# Altium schematic symbol library EsteemPCB_SOM_Course_schlib.SchLib: 243 symbols (part 1 of 3)
Pins are listed as number, name and electrical type; pins without a type are passive.

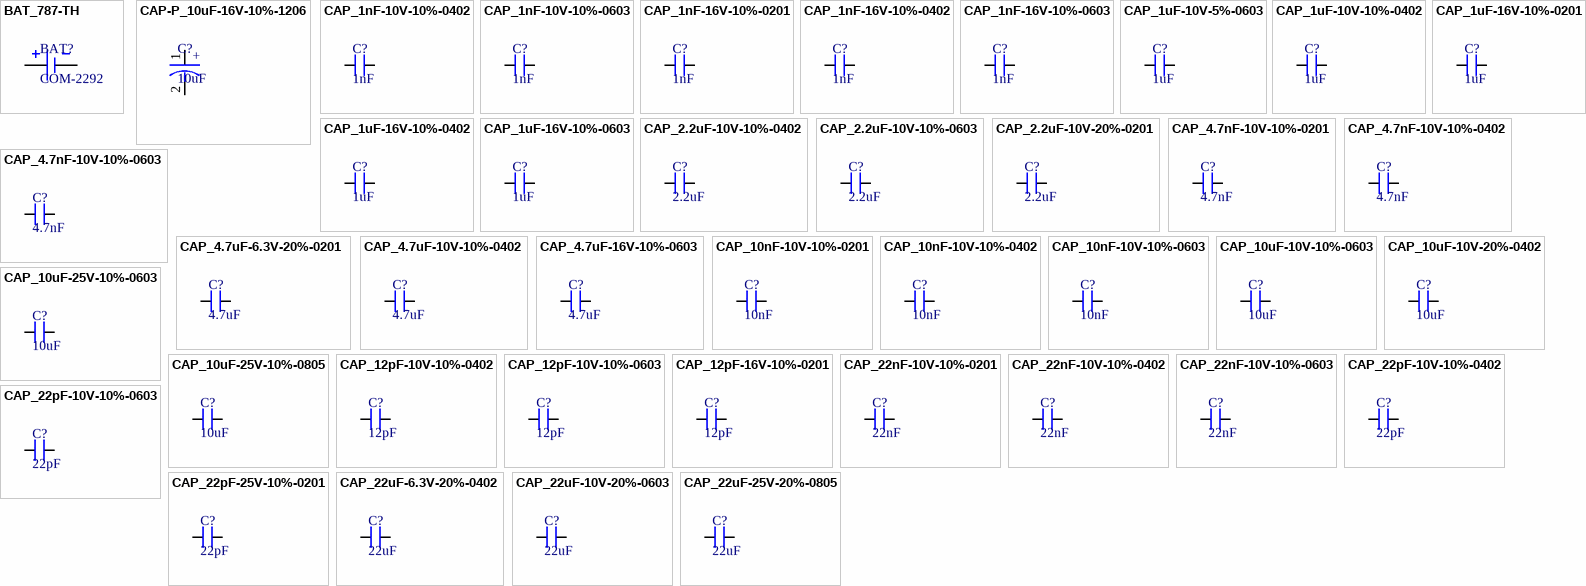
[diagram p0: symbols BAT_787-TH to CAP_22uF-25V-20%-0805]

## BAT_787-TH
designator BAT?, comment COM-2292
Basic 20mm coin cell holder. Posts can be inserted into 0.1" perf board! Holds the common CR2032 type batteries.; Manufacturer: NA; Manufacturer Part Number: NA; Case/Package: TH; Supplier-1: Rhydo Labs
footprint BAT_761_TH (Battery holder)
pins: 1 POS, 2 NEG

## CAP-P_10uF-16V-10%-1206
designator C?, comment 10uF
10µF Molded Tantalum Capacitors 16V 1206 (3216 Metric) 3Ohm; Manufacturer: AVX Corporation; Manufacturer Part Number: TAJA106K016SNJ; Alternate Part Number-1: CA45-A016K106T; Case/Package: 1206; Supplier-1: SIRICOM; Supplier Part Number-1: TAJA106K016SNJ; Category: Capacitor; Number of Pins: 2
footprint CAP-T_1206 (Footprint not found)
pins: 1, 2
text: +

## CAP_1nF-10V-10%-0402
designator C?, comment 1nF
1000pF ±10% 10V Ceramic Capacitor X7R 0402 (1005 Metric); Manufacturer: KEMET; Manufacturer Part Number: C0402C102K8RACTU; Case/Package: 0402; Supplier-1: Digikey
footprint CAP_0402 (Capacitor)
pins: 1, 2

## CAP_1nF-10V-10%-0603
designator C?, comment 1nF
1000pF ±10% 10V Ceramic Capacitor X7R 0603 (1608 Metric); Manufacturer: Yageo; Manufacturer Part Number: CC0603KRX7R6BB102; Case/Package: 0603; Supplier-1: Digikey
footprint CAP_0603 (Capacitor)
pins: 1, 2

## CAP_1nF-16V-10%-0201
designator C?, comment 1nF
1000pF ±10% 16V Ceramic Capacitor X7R 0201 (0603 Metric); Manufacturer: Murata Electronics; Manufacturer Part Number: GRM033R71C102KA01D; Case/Package: 0201; Supplier-1: Digikey
footprint CAP_0201
pins: 1, 2

## CAP_1nF-16V-10%-0402
designator C?, comment 1nF
1000pF ±10% 16V Ceramic Capacitor X7R 0402 (1005 Metric); Manufacturer: Yageo; Manufacturer Part Number: CC0402KRX7R7BB102; Case/Package: 0402; Supplier-1: Digikey
footprint CAP_0402 (Capacitor)
pins: 1, 2

## CAP_1nF-16V-10%-0603
designator C?, comment 1nF
1000pF ±10% 16V Ceramic Capacitor X7R 0603 (1608 Metric); Manufacturer: KEMET; Manufacturer Part Number: C0603C102K4RECAUTO; Case/Package: 0603; Supplier-1: Digikey
footprint CAP_0603 (Capacitor)
pins: 1, 2

## CAP_1uF-10V-5%-0603
designator C?, comment 1uF
1µF ±10% 10V Ceramic Capacitor X5R 0603 (1608 Metric); Manufacturer: Samsung Electro-Mechanics; Manufacturer Part Number: CL10A105KP8NNNC; Case/Package: 0603; Supplier-1: Digikey
footprint CAP_0603 (Capacitor)
pins: 1, 2

## CAP_1uF-10V-10%-0402
designator C?, comment 1uF
1µF ±10% 10V Ceramic Capacitor X6S 0402 (1005 Metric); Manufacturer: Murata Electronics; Manufacturer Part Number: GRT155C81A105KE01D; Case/Package: 0402; Supplier-1: Digikey
footprint CAP_0402 (Capacitor)
pins: 1, 2

## CAP_1uF-16V-10%-0201
designator C?, comment 1uF
1µF ±20% 16V Ceramic Capacitor X5R 0201 (0603 Metric); Manufacturer: Samsung Electro-Mechanics; Manufacturer Part Number: CL03A105MO3NRNH; Case/Package: 0201; Supplier-1: Digikey
footprint CAP_0201
pins: 1, 2

## CAP_1uF-16V-10%-0402
designator C?, comment 1uF
1µF ±10% 16V Ceramic Capacitor X5R 0402 (1005 Metric); Manufacturer: Knowles Novacap; Manufacturer Part Number: 0402BW105K160YT; Case/Package: 0402; Supplier-1: Digikey
footprint CAP_0402 (Capacitor)
pins: 1, 2

## CAP_1uF-16V-10%-0603
designator C?, comment 1uF
1µF ±10% 16V Ceramic Capacitor X7R 0603 (1608 Metric); Manufacturer: Yageo; Manufacturer Part Number: CC0603KRX7R7BB105; Case/Package: 0603; Supplier-1: Digikey
footprint CAP_0603 (Capacitor)
pins: 1, 2

## CAP_2.2uF-10V-10%-0402
designator C?, comment 2.2uF
2.2µF ±10% 10V Ceramic Capacitor X5R 0402 (1005 Metric); Manufacturer: Murata Electronics; Manufacturer Part Number: GRM155R61A225KE95D; Case/Package: 0402; Supplier-1: Digikey
footprint CAP_0402 (Capacitor)
pins: 1, 2

## CAP_2.2uF-10V-10%-0603
designator C?, comment 2.2uF
2.2µF ±10% 16V Ceramic Capacitor X5R 0603 (1608 Metric); Manufacturer: KEMET; Manufacturer Part Number: C0603C225K4PACTU; Case/Package: 0603; Supplier-1: Digikey
footprint CAP_0603 (Capacitor)
pins: 1, 2

## CAP_2.2uF-10V-20%-0201
designator C?, comment 2.2uF
2.2µF ±20% 10V Ceramic Capacitor X5R 0201 (0603 Metric); Manufacturer: Murata Electronics; Manufacturer Part Number: GRM033R61A225ME47D; Case/Package: 0201; Supplier-1: Digikey
footprint CAP_0201
pins: 1, 2

## CAP_4.7nF-10V-10%-0201
designator C?, comment 4.7nF
4700pF ±10% 10V Ceramic Capacitor X7R 0201 (0603 Metric); Manufacturer: AVX Corporation; Manufacturer Part Number: 0201ZC472KAT2A; Case/Package: 0201; Supplier-1: Digikey
footprint CAP_0201
pins: 1, 2

## CAP_4.7nF-10V-10%-0402
designator C?, comment 4.7nF
4700pF ±10% 10V Ceramic Capacitor 0402 (1005 Metric); Manufacturer: Taiyo Yuden; Manufacturer Part Number: LMK105SD472KV-F; Case/Package: 0402; Supplier-1: Digikey
footprint CAP_0402 (Capacitor)
pins: 1, 2

## CAP_4.7nF-10V-10%-0603
designator C?, comment 4.7nF
4700pF ±10% 10V Ceramic Capacitor X7R 0603 (1608 Metric); Manufacturer: KEMET; Manufacturer Part Number: C0603C472K8RACTU; Case/Package: 0603; Supplier-1: Digikey
footprint CAP_0603 (Capacitor)
pins: 1, 2

## CAP_4.7uF-6.3V-20%-0201
designator C?, comment 4.7uF
4.7µF ±20% 6.3V Ceramic Capacitor X5R 0201 (0603 Metric); Manufacturer: Murata Electronics; Manufacturer Part Number: GRM035R60J475ME15D; Case/Package: 0201; Supplier-1: Digikey
footprint CAP_0201
pins: 1, 2

## CAP_4.7uF-10V-10%-0402
designator C?, comment 4.7uF
4.7µF ±10% 10V Ceramic Capacitor X5R 0402 (1005 Metric); Manufacturer: Samsung Electro-Mechanics; Manufacturer Part Number: CL05A475KP5NRNC; Case/Package: 0402; Supplier-1: Digikey
footprint CAP_0402 (Capacitor)
pins: 1, 2

## CAP_4.7uF-16V-10%-0603
designator C?, comment 4.7uF
4.7µF ±10% 16V Ceramic Capacitor X5R 0603 (1608 Metric); Manufacturer: Murata Electronics; Manufacturer Part Number: GRM188R61C475KAAJD; Case/Package: 0603; Supplier-1: Digikey
footprint CAP_0603 (Capacitor)
pins: 1, 2

## CAP_10nF-10V-10%-0201
designator C?, comment 10nF
10000pF ±10% 10V Ceramic Capacitor X7R 0201 (0603 Metric); Manufacturer: TDK Corporation; Manufacturer Part Number: CGA1A2X7R1A103K030BA; Case/Package: 0201; Supplier-1: Digikey
footprint CAP_0201
pins: 1, 2

## CAP_10nF-10V-10%-0402
designator C?, comment 10nF
10000pF ±10% 10V Ceramic Capacitor X7R 0402 (1005 Metric); Manufacturer: AVX Corporation; Manufacturer Part Number: 0402ZC103KAT2A; Case/Package: 0402; Supplier-1: Digikey
footprint CAP_0402 (Capacitor)
pins: 1, 2

## CAP_10nF-10V-10%-0603
designator C?, comment 10nF
10000pF ±10% 10V Ceramic Capacitor X7R 0603 (1608 Metric); Manufacturer: KEMET; Manufacturer Part Number: C0603C103K8RACTU; Case/Package: 0603; Supplier-1: Digikey
footprint CAP_0603 (Capacitor)
pins: 1, 2

## CAP_10uF-10V-10%-0603
designator C?, comment 10uF
10µF ±10% 10V Ceramic Capacitor X5R 0603 (1608 Metric); Manufacturer Part Number: GRM188R61A106KE69J; Manufacturer: Murata Electronics; Case/Package: 0603; Supplier-1: Digikey
footprint CAP_0603 (Capacitor)
pins: 1, 2

## CAP_10uF-10V-20%-0402
designator C?, comment 10uF
10µF ±20% 10V Ceramic Capacitor X5R 0402 (1005 Metric); Manufacturer Part Number: CL05A106MP5NUNC; Manufacturer: Samsung Electro-Mechanics; Case/Package: 0402; Supplier-1: Digikey
footprint CAP_0402 (Capacitor)
pins: 1, 2

## CAP_10uF-25V-10%-0603
designator C?, comment 10uF
10µF ±10% 25V Ceramic Capacitor X5R 0603 (1608 Metric); Manufacturer: Murata Electronics; Manufacturer Part Number: GRM188R61E106KA73D; Case/Package: 0603; Supplier-1: Digikey
footprint CAP_0603 (Capacitor)
pins: 1, 2

## CAP_10uF-25V-10%-0805
designator C?, comment 10uF
10µF ±10% 25V Ceramic Capacitor X5R 0805 (2012 Metric); Manufacturer: Murata Electronics; Manufacturer Part Number: GRM21BR61E106KA73K; Case/Package: 0805; Supplier-1: Digikey
footprint CAP_0805 (Ceramic Capacitor)
pins: 1, 2

## CAP_12pF-10V-10%-0402
designator C?, comment 12pF
12pF ±10% 10V Ceramic Capacitor X8R 0402 (1005 Metric); Manufacturer: KEMET; Manufacturer Part Number: C0402C120K8HAC7867; Case/Package: 0402; Supplier-1: Digikey
footprint CAP_0402 (Capacitor)
pins: 1, 2

## CAP_12pF-10V-10%-0603
designator C?, comment 12pF
12pF ±10% 10V Ceramic Capacitor X8R 0603 (1608 Metric); Manufacturer: KEMET; Manufacturer Part Number: C0603X120K8HAC7867; Case/Package: 0603; Supplier-1: Digikey
footprint CAP_0603 (Capacitor)
pins: 1, 2

## CAP_12pF-16V-10%-0201
designator C?, comment 12pF
12pF ±10% 16V Ceramic Capacitor C0G, NP0 0201 (0603 Metric); Manufacturer: AVX Corporation; Manufacturer Part Number: 0201YA120KAT2A; Case/Package: 0201; Supplier-1: Digikey
footprint CAP_0201
pins: 1, 2

## CAP_22nF-10V-10%-0201
designator C?, comment 22nF
0.022µF ±10% 10V Ceramic Capacitor X5R 0201 (0603 Metric); Manufacturer: Yageo; Manufacturer Part Number: CC0201KRX5R6BB223; Case/Package: 0201; Supplier-1: Digikey
footprint CAP_0201
pins: 1, 2

## CAP_22nF-10V-10%-0402
designator C?, comment 22nF
0.022µF ±10% 10V Ceramic Capacitor X7R 0402 (1005 Metric); Manufacturer: Samsung Electro-Mechanics; Manufacturer Part Number: CL05B223KP5NNNC; Case/Package: 0402; Supplier-1: Digikey
footprint CAP_0402 (Capacitor)
pins: 1, 2

## CAP_22nF-10V-10%-0603
designator C?, comment 22nF
0.022µF ±10% 10V Ceramic Capacitor X7R 0603 (1608 Metric); Manufacturer: Taiyo Yuden; Manufacturer Part Number: LMF107B7223KAHT; Case/Package: 0603; Supplier-1: Digikey
footprint CAP_0603 (Capacitor)
pins: 1, 2

## CAP_22pF-10V-10%-0402
designator C?, comment 22pF
22pF ±10% 10V Ceramic Capacitor C0G, NP0 0402 (1005 Metric); Manufacturer: KEMET; Manufacturer Part Number: C0402C220K8GACTU; Case/Package: 0402; Supplier-1: Digikey
footprint CAP_0402 (Capacitor)
pins: 1, 2

## CAP_22pF-10V-10%-0603
designator C?, comment 22pF
22pF ±10% 10V Ceramic Capacitor X8R 0603 (1608 Metric); Manufacturer: KEMET; Manufacturer Part Number: C0603X220K8HAC7867; Case/Package: 0603; Supplier-1: Digikey
footprint CAP_0603 (Capacitor)
pins: 1, 2

## CAP_22pF-25V-10%-0201
designator C?, comment 22pF
22pF ±10% 25V Ceramic Capacitor C0G, NP0 0201 (0603 Metric); Manufacturer: Johanson Technology Inc.; Manufacturer Part Number: 250R05L220KV4T; Case/Package: 0201; Supplier-1: Digikey
footprint CAP_0201
pins: 1, 2

## CAP_22uF-6.3V-20%-0402
designator C?, comment 22uF
22µF ±20% 6.3V Ceramic Capacitor X5R 0402 (1005 Metric); Manufacturer: Murata Electronics; Manufacturer Part Number: CL05A226MQ5N6J8; Case/Package: 0402; Supplier-1: Digikey
footprint CAP_0402 (Capacitor)
pins: 1, 2

## CAP_22uF-10V-20%-0603
designator C?, comment 22uF
22µF ±20% 10V Ceramic Capacitor X5R 0603 (1608 Metric); Manufacturer: Murata Electronics; Manufacturer Part Number: GRM188R61A226ME15D; Case/Package: 0603; Supplier-1: Digikey
footprint CAP_0603 (Capacitor)
pins: 1, 2

## CAP_22uF-25V-20%-0805
designator C?, comment 22uF
22µF ±20% 25V Ceramic Capacitor X5R 0805 (2012 Metric); Manufacturer: Murata Electronics; Manufacturer Part Number: GRM21BR61E226ME44K; Case/Package: 0805; Supplier-1: Digikey
footprint CAP_0805 (Ceramic Capacitor)
pins: 1, 2

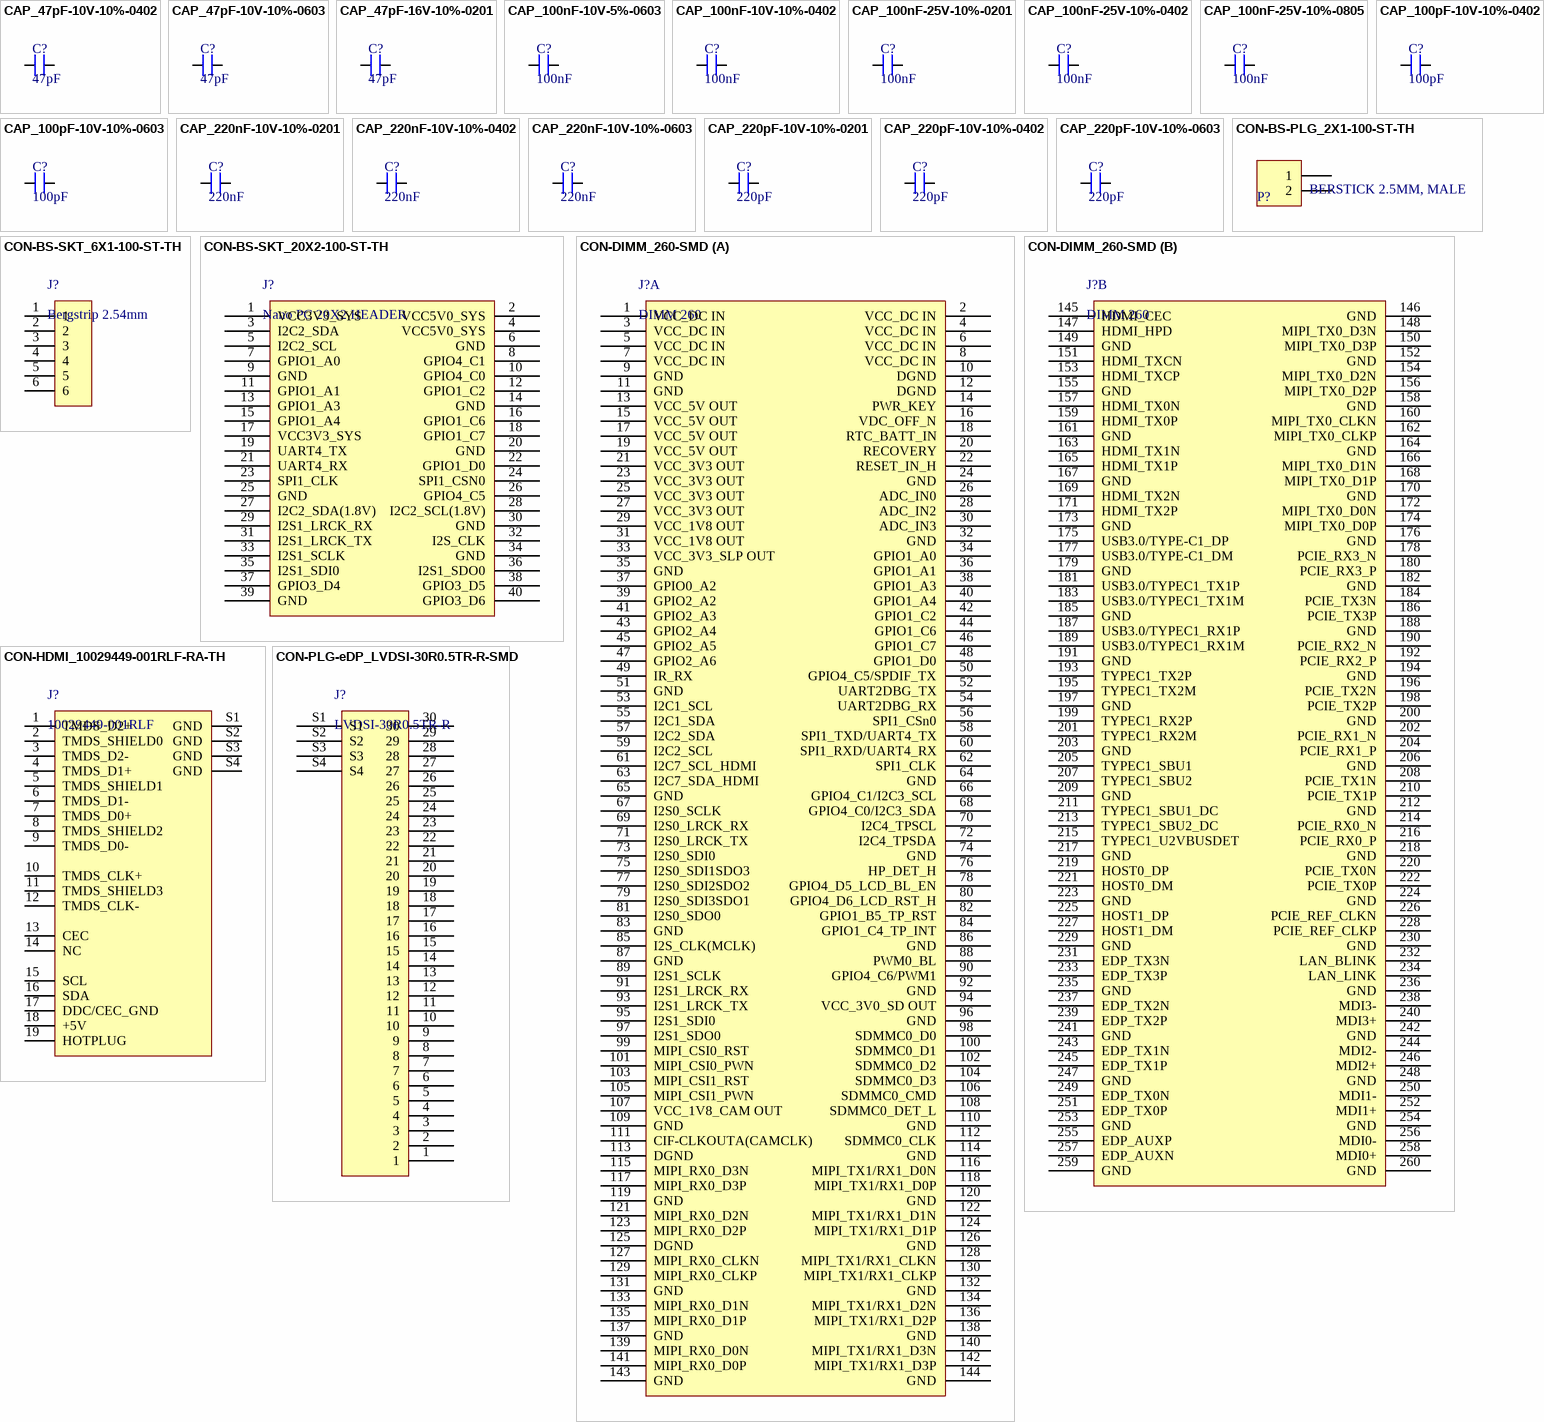
[diagram p1: symbols CAP_47pF-10V-10%-0402 to CON-PLG-eDP_LVDSI-30R0.5TR-R-SMD]

## CAP_47pF-10V-10%-0402
designator C?, comment 47pF
47pF ±10% 10V Ceramic Capacitor C0G, NP0 0402 (1005 Metric); Manufacturer: KEMET; Manufacturer Part Number: C0402C470K8GAC7867; Case/Package: 0402; Supplier-1: Supplier-1
footprint CAP_0402 (Capacitor)
pins: 1, 2

## CAP_47pF-10V-10%-0603
designator C?, comment 47pF
47pF ±10% 10V Ceramic Capacitor X8R 0603 (1608 Metric); Manufacturer: KEMET; Manufacturer Part Number: C0603X470K8HAC7867; Case/Package: 0603; Supplier-1: Supplier-1
footprint CAP_0603 (Capacitor)
pins: 1, 2

## CAP_47pF-16V-10%-0201
designator C?, comment 47pF
47pF ±10% 16V Ceramic Capacitor X5R 0201 (0603 Metric); Manufacturer: AVX Corporation; Manufacturer Part Number: 0201YD470KAT2A; Case/Package: 0201; Supplier-1: Supplier-1
footprint CAP_0201
pins: 1, 2

## CAP_100nF-10V-5%-0603
designator C?, comment 100nF
0.1µF ±10% 10V Ceramic Capacitor X7R 0603 (1608 Metric); Manufacturer: Yageo; Manufacturer Part Number: CC0603KRX7R6BB104; Case/Package: 0603; Supplier-1: Digikey
footprint CAP_0603 (Capacitor)
pins: 1, 2

## CAP_100nF-10V-10%-0402
designator C?, comment 100nF
0.1µF ±10% 10V Ceramic Capacitor X7R 0402 (1005 Metric); Manufacturer: Yageo; Manufacturer Part Number: CC0402KRX7R6BB104; Case/Package: 0402; Supplier-1: Digikey
footprint CAP_0402 (Capacitor)
pins: 1, 2

## CAP_100nF-25V-10%-0201
designator C?, comment 100nF
0.1µF ±10% 25V Ceramic Capacitor X5R 0201 (0603 Metric); Manufacturer: TDK Corporation; Manufacturer Part Number: C0603X5R1E104K030BB; Case/Package: 0201; Supplier-1: Digikey
footprint CAP_0201
pins: 1, 2

## CAP_100nF-25V-10%-0402
designator C?, comment 100nF
0.1µF ±10% 25V Ceramic Capacitor X7R 0402 (1005 Metric); Manufacturer: Walsin Technology Corporation; Manufacturer Part Number: 0402B104K250CT; Case/Package: 0402; Supplier-1: Digikey
footprint CAP_0402 (Capacitor)
pins: 1, 2

## CAP_100nF-25V-10%-0805
designator C?, comment 100nF
0.1µF ±10% 25V Ceramic Capacitor X7R 0805 (2012 Metric); Manufacturer: Yageo; Manufacturer Part Number: CC0805KRX7R8BB104; Case/Package: 0805; Supplier-1: Digikey
footprint CAP_0805 (Ceramic Capacitor)
pins: 1, 2

## CAP_100pF-10V-10%-0402
designator C?, comment 100pF
100pF ±10% 10V Ceramic Capacitor X7R 0402 (1005 Metric); Manufacturer: KEMET; Manufacturer Part Number: C0402C101K8RAC7867; Case/Package: 0402; Supplier-1: Digikey
footprint CAP_0402 (Capacitor)
pins: 1, 2

## CAP_100pF-10V-10%-0603
designator C?, comment 100pF
100pF ±10% 10V Ceramic Capacitor X7R 0603 (1608 Metric); Manufacturer: AVX Corporation; Manufacturer Part Number: 0603ZC101KAT2A; Case/Package: 0603; Supplier-1: Digikey
footprint CAP_0603 (Capacitor)
pins: 1, 2

## CAP_220nF-10V-10%-0201
designator C?, comment 220nF
0.22µF ±10% 10V Ceramic Capacitor X7R 0402 (1005 Metric); Manufacturer: Samsung Electro-Mechanics; Manufacturer Part Number: CL03A224KP3NNNC; Case/Package: 0201; Supplier-1: Digikey
footprint CAP_0201
pins: 1, 2

## CAP_220nF-10V-10%-0402
designator C?, comment 220nF
0.22µF ±10% 10V Ceramic Capacitor X7R 0402 (1005 Metric); Manufacturer: Samsung Electro-Mechanics; Manufacturer Part Number: CL05B224KP5NNNC; Case/Package: 0402; Supplier-1: Digikey
footprint CAP_0402 (Capacitor)
pins: 1, 2

## CAP_220nF-10V-10%-0603
designator C?, comment 220nF
0.22µF ±10% 10V Ceramic Capacitor X7R 0603 (1608 Metric); Manufacturer: Yageo; Manufacturer Part Number: CC0603KRX7R6BB224; Case/Package: 0603; Supplier-1: Digikey
footprint CAP_0603 (Capacitor)
pins: 1, 2

## CAP_220pF-10V-10%-0201
designator C?, comment 220pF
0.22µF ±10% 10V Ceramic Capacitor X5R 0201 (0603 Metric); Manufacturer: KEMET; Manufacturer Part Number: C0402C221K8RAC7867; Case/Package: 0201; Supplier-1: Digikey
footprint CAP_0201
pins: 1, 2

## CAP_220pF-10V-10%-0402
designator C?, comment 220pF
220pF ±10% 10V Ceramic Capacitor X7R 0402 (1005 Metric); Manufacturer: KEMET; Manufacturer Part Number: C0402C221K8RAC7867; Case/Package: 0402; Supplier-1: Digikey
footprint CAP_0402 (Capacitor)
pins: 1, 2

## CAP_220pF-10V-10%-0603
designator C?, comment 220pF
220pF ±10% 10V Ceramic Capacitor X7R 0603 (1608 Metric); Manufacturer: KEMET; Manufacturer Part Number: C0603C221K8RAC7867; Case/Package: 0603; Supplier-1: Digikey
footprint CAP_0603 (Capacitor)
pins: 1, 2

## CON-BS-PLG_2X1-100-ST-TH
designator P?, comment BERSTICK 2.5MM, MALE
2 Pins, 1 Row 2.54mm Pitch, Straight bergstrip, Male; Manufacturer Part Number: NA; Manufacturer: Samtec; Case/Package: TH-CON; Supplier-1: SP ROAD
footprint CON2_100_43D62_TH_ST (Footprint not found)
pins: 1, 2

## CON-BS-SKT_6X1-100-ST-TH
designator J?, comment Bergstrip 2.54mm
6 Pins, 1 Row 2.54mm Pitch, Straight bergstrip, Female; Manufacturer: Molex; Manufacturer Part Number: 22-10-2061; Case/Package: TH-CON; Supplier-1: SP ROAD
footprint CON6_100_59D78_TH_ST (Bergstrip)
pins: 1, 2, 3, 4, 5, 6

## CON-BS-SKT_20X2-100-ST-TH
designator J?, comment Nano PC 20X2 HEADER
40 Pins, 2 Row 2.54mm Pitch, Straight bergstrip, Female (Stackup); Manufacturer Part Number: ADA2223; Manufacturer: FCI / Amphenol; Case/Package: TH-CON; Supplier-1: TANOTIS
footprint CON40_100_ADA2223_ST_TH
pins: 1 VCC3V3_SYS, 2 VCC5V0_SYS, 3 I2C2_SDA, 4 VCC5V0_SYS, 5 I2C2_SCL, 6 GND, 7 GPIO1_A0, 8 GPIO4_C1, 9 GND, 10 GPIO4_C0, 11 GPIO1_A1, 12 GPIO1_C2, 13 GPIO1_A3, 14 GND, 15 GPIO1_A4, 16 GPIO1_C6, 17 VCC3V3_SYS, 18 GPIO1_C7, 19 UART4_TX, 20 GND, 21 UART4_RX, 22 GPIO1_D0, 23 SPI1_CLK, 24 SPI1_CSN0, 25 GND, 26 GPIO4_C5, 27 I2C2_SDA(1.8V), 28 I2C2_SCL(1.8V), 29 I2S1_LRCK_RX, 30 GND, 31 I2S1_LRCK_TX, 32 I2S_CLK, 33 I2S1_SCLK, 34 GND, 35 I2S1_SDI0, 36 I2S1_SDO0, 37 GPIO3_D4, 38 GPIO3_D5, 39 GND, 40 GPIO3_D6

## CON-DIMM_260-SMD
designator J?, comment DIMM 260
Dimm 260 pin smd plating on pcb; Manufacturer: NA; Manufacturer Part Number: NA; Case/Package: NA; Supplier-1: NA
footprint DIMM260_DDR4 (Dimm Module)
part A pins: 1 VCC_DC IN, 2 VCC_DC IN, 3 VCC_DC IN, 4 VCC_DC IN, 5 VCC_DC IN, 6 VCC_DC IN, 7 VCC_DC IN, 8 VCC_DC IN, 9 GND, 10 DGND, 11 GND, 12 DGND, 13 VCC_5V OUT, 14 PWR_KEY, 15 VCC_5V OUT, 16 VDC_OFF_N, 17 VCC_5V OUT, 18 RTC_BATT_IN, 19 VCC_5V OUT, 20 RECOVERY, 21 VCC_3V3 OUT, 22 RESET_IN_H, 23 VCC_3V3 OUT, 24 GND, 25 VCC_3V3 OUT, 26 ADC_IN0, 27 VCC_3V3 OUT, 28 ADC_IN2, 29 VCC_1V8 OUT, 30 ADC_IN3, 31 VCC_1V8 OUT, 32 GND, 33 VCC_3V3_SLP OUT, 34 GPIO1_A0, 35 GND, 36 GPIO1_A1, 37 GPIO0_A2, 38 GPIO1_A3, 39 GPIO2_A2, 40 GPIO1_A4, 41 GPIO2_A3, 42 GPIO1_C2, 43 GPIO2_A4, 44 GPIO1_C6, 45 GPIO2_A5, 46 GPIO1_C7, 47 GPIO2_A6, 48 GPIO1_D0, 49 IR_RX, 50 GPIO4_C5/SPDIF_TX, 51 GND, 52 UART2DBG_TX, 53 I2C1_SCL, 54 UART2DBG_RX, 55 I2C1_SDA, 56 SPI1_CSn0, 57 I2C2_SDA, 58 SPI1_TXD/UART4_TX, 59 I2C2_SCL, 60 SPI1_RXD/UART4_RX, 61 I2C7_SCL_HDMI, 62 SPI1_CLK, 63 I2C7_SDA_HDMI, 64 GND, 65 GND, 66 GPIO4_C1/I2C3_SCL, 67 I2S0_SCLK, 68 GPIO4_C0/I2C3_SDA, 69 I2S0_LRCK_RX, 70 I2C4_TPSCL, 71 I2S0_LRCK_TX, 72 I2C4_TPSDA, 73 I2S0_SDI0, 74 GND, 75 I2S0_SDI1SDO3, 76 HP_DET_H, 77 I2S0_SDI2SDO2, 78 GPIO4_D5_LCD_BL_EN, 79 I2S0_SDI3SDO1, 80 GPIO4_D6_LCD_RST_H, 81 I2S0_SDO0, 82 GPIO1_B5_TP_RST, 83 GND, 84 GPIO1_C4_TP_INT, 85 I2S_CLK(MCLK), 86 GND, 87 GND, 88 PWM0_BL, 89 I2S1_SCLK, 90 GPIO4_C6/PWM1, 91 I2S1_LRCK_RX, 92 GND, 93 I2S1_LRCK_TX, 94 VCC_3V0_SD OUT, 95 I2S1_SDI0, 96 GND, 97 I2S1_SDO0, 98 SDMMC0_D0, 99 MIPI_CSI0_RST, 100 SDMMC0_D1, 101 MIPI_CSI0_PWN, 102 SDMMC0_D2, 103 MIPI_CSI1_RST, 104 SDMMC0_D3, 105 MIPI_CSI1_PWN, 106 SDMMC0_CMD, 107 VCC_1V8_CAM OUT, 108 SDMMC0_DET_L, 109 GND, 110 GND, 111 CIF-CLKOUTA(CAMCLK), 112 SDMMC0_CLK, 113 DGND, 114 GND, 115 MIPI_RX0_D3N, 116 MIPI_TX1/RX1_D0N, 117 MIPI_RX0_D3P, 118 MIPI_TX1/RX1_D0P, 119 GND, 120 GND, 121 MIPI_RX0_D2N, 122 MIPI_TX1/RX1_D1N, 123 MIPI_RX0_D2P, 124 MIPI_TX1/RX1_D1P, 125 DGND, 126 GND, 127 MIPI_RX0_CLKN, 128 MIPI_TX1/RX1_CLKN, 129 MIPI_RX0_CLKP, 130 MIPI_TX1/RX1_CLKP, 131 GND, 132 GND, 133 MIPI_RX0_D1N, 134 MIPI_TX1/RX1_D2N, 135 MIPI_RX0_D1P, 136 MIPI_TX1/RX1_D2P, 137 GND, 138 GND, 139 MIPI_RX0_D0N, 140 MIPI_TX1/RX1_D3N, 141 MIPI_RX0_D0P, 142 MIPI_TX1/RX1_D3P, 143 GND, 144 GND
part B pins: 145 HDMI_CEC, 146 GND, 147 HDMI_HPD, 148 MIPI_TX0_D3N, 149 GND, 150 MIPI_TX0_D3P, 151 HDMI_TXCN, 152 GND, 153 HDMI_TXCP, 154 MIPI_TX0_D2N, 155 GND, 156 MIPI_TX0_D2P, 157 HDMI_TX0N, 158 GND, 159 HDMI_TX0P, 160 MIPI_TX0_CLKN, 161 GND, 162 MIPI_TX0_CLKP, 163 HDMI_TX1N, 164 GND, 165 HDMI_TX1P, 166 MIPI_TX0_D1N, 167 GND, 168 MIPI_TX0_D1P, 169 HDMI_TX2N, 170 GND, 171 HDMI_TX2P, 172 MIPI_TX0_D0N, 173 GND, 174 MIPI_TX0_D0P, 175 USB3.0/TYPE-C1_DP, 176 GND, 177 USB3.0/TYPE-C1_DM, 178 PCIE_RX3_N, 179 GND, 180 PCIE_RX3_P, 181 USB3.0/TYPEC1_TX1P, 182 GND, 183 USB3.0/TYPEC1_TX1M, 184 PCIE_TX3N, 185 GND, 186 PCIE_TX3P, 187 USB3.0/TYPEC1_RX1P, 188 GND, 189 USB3.0/TYPEC1_RX1M, 190 PCIE_RX2_N, 191 GND, 192 PCIE_RX2_P, 193 TYPEC1_TX2P, 194 GND, 195 TYPEC1_TX2M, 196 PCIE_TX2N, 197 GND, 198 PCIE_TX2P, 199 TYPEC1_RX2P, 200 GND, 201 TYPEC1_RX2M, 202 PCIE_RX1_N, 203 GND, 204 PCIE_RX1_P, 205 TYPEC1_SBU1, 206 GND, 207 TYPEC1_SBU2, 208 PCIE_TX1N, 209 GND, 210 PCIE_TX1P, 211 TYPEC1_SBU1_DC, 212 GND, 213 TYPEC1_SBU2_DC, 214 PCIE_RX0_N, 215 TYPEC1_U2VBUSDET, 216 PCIE_RX0_P, 217 GND, 218 GND, 219 HOST0_DP, 220 PCIE_TX0N, 221 HOST0_DM, 222 PCIE_TX0P, 223 GND, 224 GND, 225 HOST1_DP, 226 PCIE_REF_CLKN, 227 HOST1_DM, 228 PCIE_REF_CLKP, 229 GND, 230 GND, 231 EDP_TX3N, 232 LAN_BLINK, 233 EDP_TX3P, 234 LAN_LINK, 235 GND, 236 GND, 237 EDP_TX2N, 238 MDI3-, 239 EDP_TX2P, 240 MDI3+, 241 GND, 242 GND, 243 EDP_TX1N, 244 MDI2-, 245 EDP_TX1P, 246 MDI2+, 247 GND, 248 GND, 249 EDP_TX0N, 250 MDI1-, 251 EDP_TX0P, 252 MDI1+, 253 GND, 254 GND, 255 EDP_AUXP, 256 MDI0-, 257 EDP_AUXN, 258 MDI0+, 259 GND, 260 GND

## CON-HDMI_10029449-001RLF-RA-TH
designator J?, comment 10029449-001RLF
HDMI HDMI 1.4 Receptacle Connector 19 Position Surface Mount, Right Angle; Through Hole; Manufacturer: Amphenol ICC (FCI); Manufacturer Part Number: 10029449-001RLF; Case/Package: TH; Supplier-1: Digikey
footprint CON19_19.6_10029449-001RLF_TH_RA (HDMI Connector)
pins: 1 TMDS_D2+, 2 TMDS_SHIELD0, 3 TMDS_D2-, 4 TMDS_D1+, 5 TMDS_SHIELD1, 6 TMDS_D1-, 7 TMDS_D0+, 8 TMDS_SHIELD2, 9 TMDS_D0-, 10 TMDS_CLK+, 11 TMDS_SHIELD3, 12 TMDS_CLK-, 13 CEC, 14 NC, 15 SCL, 16 SDA, 17 DDC/CEC_GND, 18 +5V, 19 HOTPLUG, S1 GND, S2 GND, S3 GND, S4 GND

## CON-PLG-eDP_LVDSI-30R0.5TR-R-SMD
designator J?, comment LVDSI-30R0.5TR-R
eDP Connector Female 0.5mm Pitch 30Pin; Manufacturer: gtk: A Volex Company; Manufacturer Part Number: LVDSI-30R0.5TR-R; Case/Package: SMD; Supplier-1: Mouser
footprint CON30_19.6_LVDSI-30R0.5TR-R_TH_RA (EDP Connector)
pins: 1, 2, 3, 4, 5, 6, 7, 8, 9, 10, 11, 12, 13, 14, 15, 16, 17, 18, 19, 20, 21, 22, 23, 24, 25, 26, 27, 28, 29, 30, S1, S2, S3, S4

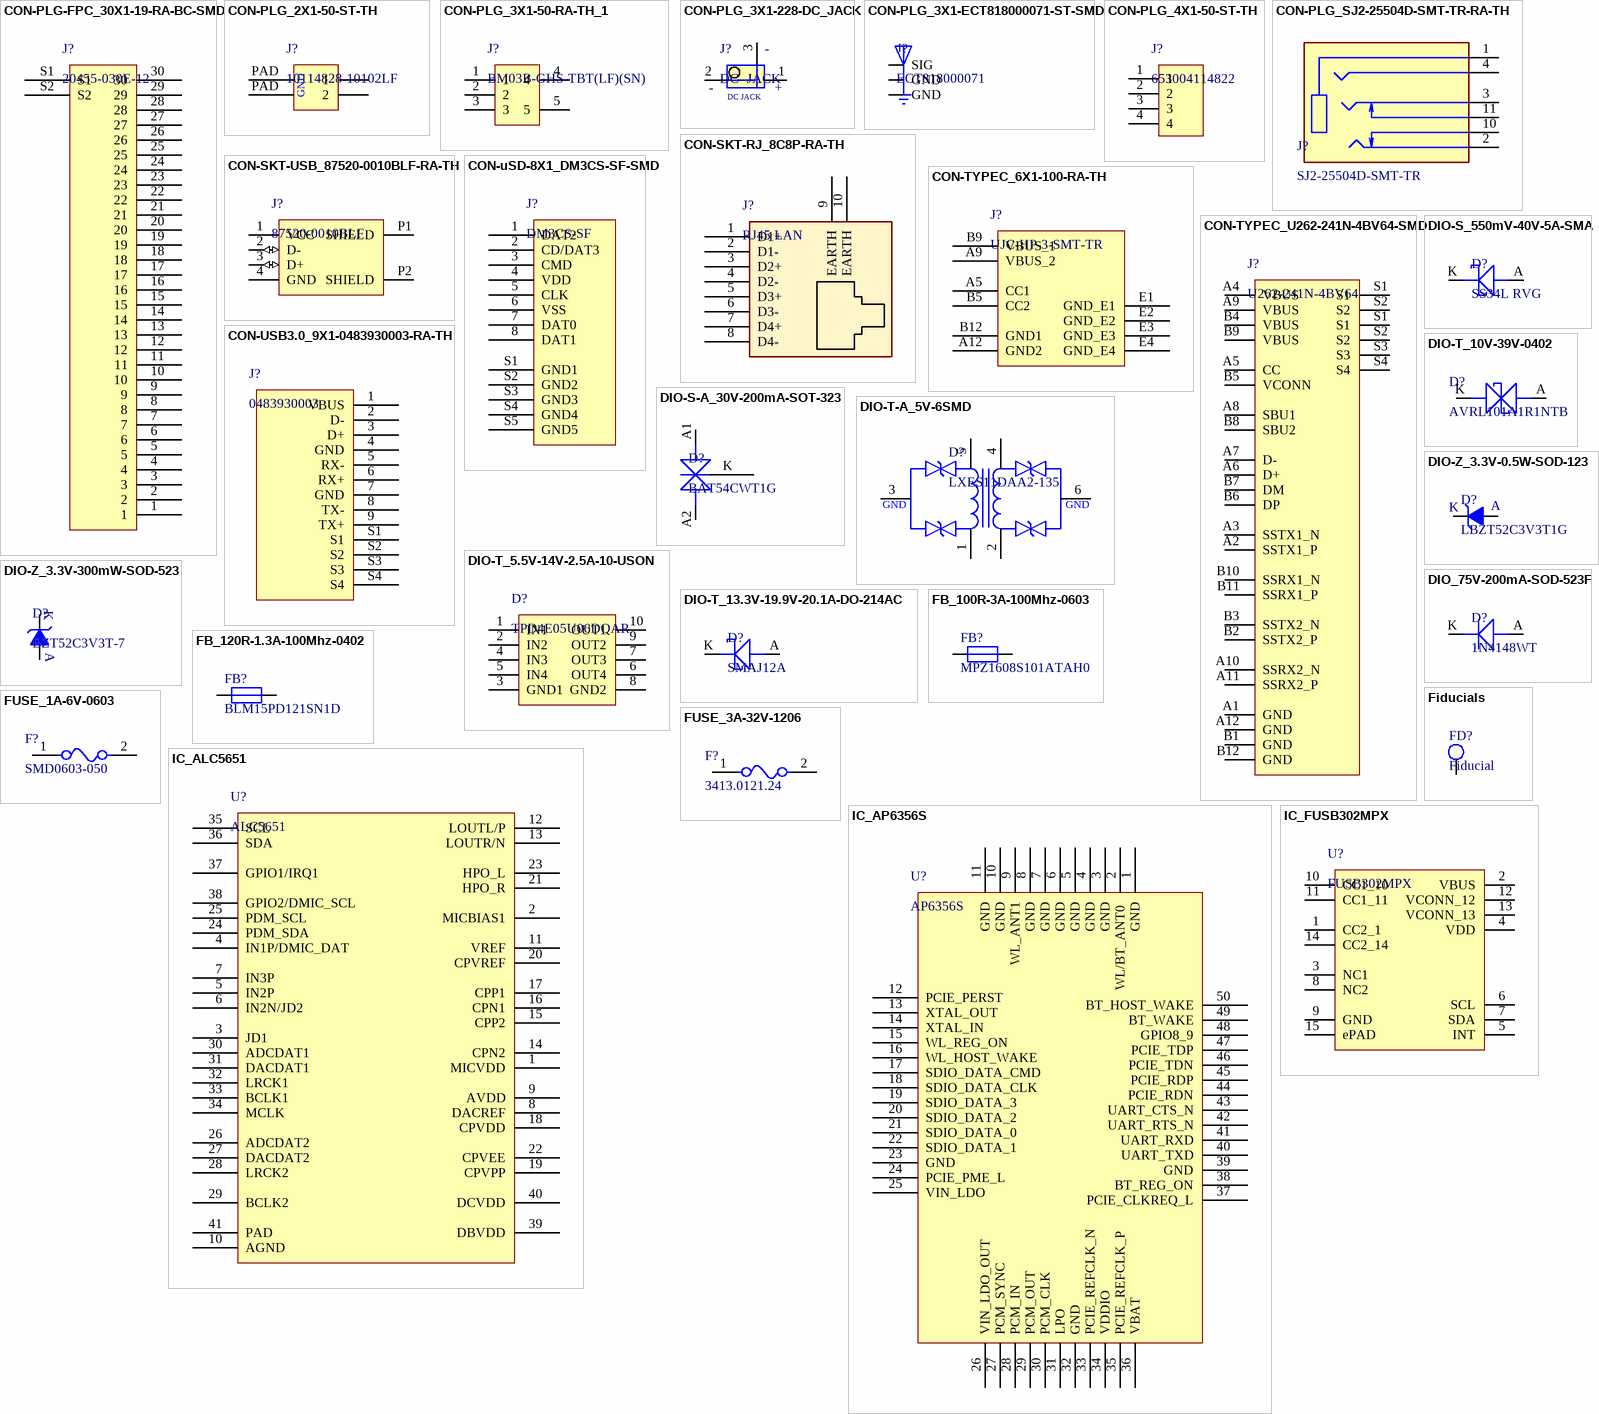
[diagram p2: symbols CON-PLG-FPC_30X1-19-RA-BC-SMD to IC_FUSB302MPX]

## CON-PLG-FPC_30X1-19-RA-BC-SMD
designator J?, comment 20455-030E-12
FFC & FPC Connectors 0.5 FPC EASYON BTM CONT RA 30CKT ZIF; Manufacturer: WE; Manufacturer Part Number: 68713014522; Case/Package: SMD; Supplier-1: Mouser
footprint CON30_19_68713014522 _SMD_RA (30 PIN FPC Connector)
pins: 1, 2, 3, 4, 5, 6, 7, 8, 9, 10, 11, 12, 13, 14, 15, 16, 17, 18, 19, 20, 21, 22, 23, 24, 25, 26, 27, 28, 29, 30, S1, S2

## CON-PLG_2X1-50-ST-TH
designator J?, comment 10114828-10102LF
Connector Header Surface Mount 2 position 0.049" (1.25mm); Manufacturer: Amphenol ICC (FCI); Manufacturer Part Number: 10114828-10102LF; Case/Package: SMD; Supplier-1: Digikey
footprint CON2_10114828-10102LF_SMD (Connector)
pins: 1, 2, PAD, PAD
text: GND

## CON-PLG_3X1-50-RA-TH_1
designator J?, comment BM03B-GHS-TBT(LF)(SN)
Connector Header Surface Mount 3 position 0.049" (1.25mm); Manufacturer: JST Sales America Inc.; Mating Part Number: GHR-03V-S; Crimp Part Number: SSHL-002T-P0.2; Alternate Part Number-1: NA; Manufacturer Part Number: BM03B-GHS-TBT(LF)(SN); Case/Package: TH-CON; Supplier-1: Digikey; Supplier Part Number-1: BM03B-GHS-TBT(LF)(SN); Category: Connector; Number of Pins: 3
footprint CON3_50_BM03B-GHS-TBT(LF)(SN)_TH_RA (Footprint not found)
pins: 1, 2, 3, 4, 5

## CON-PLG_3X1-228-DC_JACK
designator J?, comment DC -JACK
3 Pins, 1 Row 228mil Pitch, right angle Connector, male; Manufacturer: JST; Manufacturer Part Number: PJ-002A; Case/Package: TH-CON; Supplier-1: SP ROAD
footprint CON3_129_PJ-002A_TH_RA (DC JACK)
pins: 1, 2, 3 -
text: +; DC JACK

## CON-PLG_3X1-ECT818000071-ST-SMD
designator J?, comment ECT818000071
SMD RF Connectors/Coaxial Connectors RoHS; Manufacturer: ECT; Manufacturer Part Number: ECT818000071; Case/Package: SMD; Supplier-1: LCSC
footprint CON3_UFL_116_SMD_ST (Footprint not found)
pins: 1 GND, 2 SIG, 3 GND

## CON-PLG_4X1-50-ST-TH
designator J?, comment 653004114822
4 Pins, 1 Row 1.25mm Pitch, straight Connector, male; Manufacturer: JST; Manufacturer Part Number: 653004114822; Case/Package: TH-CON; Supplier-1: WURTH
footprint CON4_50_653004114822_TH_ST (Footprint not found)
pins: 1, 2, 3, 4

## CON-PLG_SJ2-25504D-SMT-TR-RA-TH
designator J?, comment SJ2-25504D-SMT-TR
2.5 mm, Stereo, Right Angle, Surface Mount (SMT), 4 Conductors, 2 Internal Switches, Audio Jack Connector; Manufacturer: CUI Devices; Manufacturer Part Number: SJ2-25504D-SMT-TR; Case/Package: SMD; Supplier-1: Digikey
footprint CON11_SJ2-25504D-SMT-TR_TH_RA (Audio Jack)
pins: 1 SLEEVE, 2 TIP, 3 RING1, 4 RING2, 10 TIP_SWITCH, 11 RING1_SWITCH

## CON-SKT-RJ_8C8P-RA-TH
designator J?, comment RJ45 LAN
8 Pins, 2 Row 2.54mm Pitch, right angle Connector, male; Manufacturer: Assmann; Manufacturer Part Number: A-2004-2-4-LPS-N-R; Case/Package: TH-CON; Supplier-1: SP ROAD
footprint CON10_P106_RJ45_TH_ST (Footprint not found)
pins: 1 D1+, 2 D1-, 3 D2+, 4 D2-, 5 D3+, 6 D3-, 7 D4+, 8 D4-, 9 EARTH, 10 EARTH

## CON-SKT-USB_87520-0010BLF-RA-TH
designator J?, comment 87520-0010BLF
USB-A (USB TYPE-A) USB 2.0 Receptacle Connector 4 Position Through Hole, Right Angle; Manufacturer: Amphenol ICC (FCI); Manufacturer Part Number: 87520-0010BLF; Case/Package: TH; Supplier-1: Digikey
footprint CON4_98_87520-0010BLF_RA_TH (USB FEMALE)
pins: 1 VCC (power), 2 D- (io), 3 D+ (io), 4 GND (power), P1 SHIELD, P2 SHIELD

## CON-TYPEC_6X1-100-RA-TH
designator J?, comment UJC-HP-3-SMT-TR
USB Connectors USB jack, C type, power only, 6 pin, horizonal, gold flash plating, surface mount, T&R; Manufacturer: CUI Devices; Manufacturer Part Number: UJC-HP-3-SMT-TR; Case/Package: TH; Supplier-1: Mouser
footprint CON6_48.4_UJC-HP-3-SMT-TR (Type-C Connector)
pins: A5 CC1, A9 VBUS_2, A12 GND2, B5 CC2, B9 VBUS_1, B12 GND1, E1 GND_E1, E2 GND_E2, E3 GND_E3, E4 GND_E4

## CON-TYPEC_U262-241N-4BV64-SMD
designator J?, comment U262-241N-4BV64
USB - Type C Female 24 SMD USB Connectors RoHS; Manufacturer: XKB Connectivity; Manufacturer Part Number: U262-241N-4BV64; Case/Package: SMD; Supplier-1: LCSC
footprint CON24_19.64_U262-241N-4BV64_TH_RA (Type C Connector)
pins: A1 GND, A2 SSTX1_P, A3 SSTX1_N, A4 VBUS, A5 CC, A6 D+, A7 D-, A8 SBU1, A9 VBUS, A10 SSRX2_N, A11 SSRX2_P, A12 GND, B1 GND, B2 SSTX2_P, B3 SSTX2_N, B4 VBUS, B5 VCONN, B6 DP, B7 DM, B8 SBU2, B9 VBUS, B10 SSRX1_N, B11 SSRX1_P, B12 GND, S1, S1, S2, S2, S3, S4

## CON-USB3.0_9X1-0483930003-RA-TH
designator J?, comment 0483930003
USB-A (USB TYPE-A) USB 3.2 Gen 1 (USB 3.1 Gen 1, Superspeed (USB 3.0)) Receptacle Connector 9 Position Through Hole, Right Angle; Manufacturer: Molex; Manufacturer Part Number: 0483930003; Case/Package: TH; Supplier-1: Digikey
footprint CON9_78_0483930003_TH_RA
pins: 1 VBUS, 2 D-, 3 D+, 4 GND, 5 RX-, 6 RX+, 7 GND, 8 TX-, 9 TX+, S1, S2, S3, S4

## CON-uSD-8X1_DM3CS-SF-SMD
designator J?, comment DM3CS-SF
Memory Card Connectors 8P R/A SMT MICRO SD HINGE PUSH-PULL; Manufacturer: Hirose Electric Co Ltd; Manufacturer Part Number: DM3CS-SF; Case/Package: SMD; Supplier-1: Digikey
footprint CON8_43_DM3CS-SF_SMD (uSD Card)
pins: 1 DAT2, 2 CD/DAT3, 3 CMD, 4 VDD, 5 CLK, 6 VSS, 7 DAT0, 8 DAT1, S1 GND1, S2 GND2, S3 GND3, S4 GND4, S5 GND5

## DIO-S-A_30V-200mA-SOT-323
designator D?, comment BAT54CWT1G
Diode Array 1 Pair Common Cathode Schottky 30V 200mA (DC) Surface Mount SC-70, SOT-323; Manufacturer: ON Semiconductor; Manufacturer Part Number: BAT54CWT1G; Case/Package: SOT323; Supplier-1: Digikey
footprint DIO_SOT-323-3 (SOT Package)
pins: A1, A2, K

## DIO-S_550mV-40V-5A-SMA
designator D?, comment SS34L RVG
Diode Schottky 40V 5A Surface Mount SMA; Manufacturer: Multicomp; Alternate Part Number-1: SS34; Manufacturer Part Number: SS34L RVG; Case/Package: SMA; Supplier-1: SIRICOM; Supplier Part Number-1: SS34L RVG; Category: Diode; Number of Pins: 2
footprint DIO_SMA_DO-214AC (SMA Package)
pins: A, K

## DIO-T-A_5V-6SMD
designator D?, comment LXES11DAA2-135
Clamp Ipp Tvs Diode Surface Mount 10-SMD; Manufacturer: Murata Electronics; Manufacturer Part Number: LXES11DAA2-135; Case/Package: SMD-6; Supplier-1: Digikey
footprint DIO_LXES11D_SMD (TVS Diode)
pins: 1, 2, 3 5, 4, 5, 6
text: GND

## DIO-T_5.5V-14V-2.5A-10-USON
designator D?, comment TPD4E05U06DQAR
14V Clamp 2.5A (8/20µs) Ipp Tvs Diode Surface Mount 10-USON (2.5x1); Manufacturer: Texas Instruments; Manufacturer Part Number: TPD4E05U06DQAR; Case/Package: 10-USON; Supplier-1: Digikey
footprint DIO_USON-10_SMD (ESD Diode)
pins: 1 IN1, 2 IN2, 3 GND1, 4 IN3, 5 IN4, 6 OUT4, 7 OUT3, 8 GND2, 9 OUT2, 10 OUT1

## DIO-T_10V-39V-0402
designator D?, comment AVRL101A1R1NTB
39V Varistor 1 Circuit Surface Mount, MLCV 0402 (1005 Metric); Manufacturer: TDK Corporation; Manufacturer Part Number: AVRL101A1R1NTB; Supplier-1: Digikey; Case/Package: 0402
footprint DIO_0402_SMD (Diode)
pins: A, K

## DIO-T_13.3V-19.9V-20.1A-DO-214AC
designator D?, comment SMAJ12A
19.9V Clamp 20.1A Ipp Tvs Diode Surface Mount DO-214AC (SMA); Manufacturer: Littelfuse Inc.; Manufacturer Part Number: SMAJ12A; Case/Package: DO-214AC; Supplier-1: Digikey
footprint DIO_SMA_DO-214AC (SMA Package)
pins: A, K

## DIO-Z_3.3V-0.5W-SOD-123
designator D?, comment LBZT52C3V3T1G
3.3V 500mW 5uA @ 1V SOD-123 Zener Diodes RoHS; Manufacturer: LRC; Manufacturer Part Number: LBZT52C3V3T1G; Case/Package: SOD-123; Supplier-1: LCSC
footprint DIO_SOD-123 (DIODE GEN PURP)
pins: A, K

## DIO-Z_3.3V-300mW-SOD-523
designator D?, comment BZT52C3V3T-7
Zener Diode 3.3V 300mW ±6% Surface Mount SOD-523; Manufacturer: Diodes Incorporated; Manufacturer Part Number: BZT52C3V3T-7; Case/Package: SOD523; Supplier-1: Digikey
footprint DIO_SOD523 (DIODE)
pins: A, K

## DIO_75V-200mA-SOD-523F
designator D?, comment 1N4148WT
Diode Standard 100V 300mA (DC) Surface Mount SOD-123; Manufacturer: FAIRCHILD; Manufacturer Part Number: 1N4148WT; Case/Package: SOD123; Supplier-1: SIRICOM
footprint DIO_SOD523 (DIODE)
pins: A ANODE, K CATHODE

## FB_100R-3A-100Mhz-0603
designator FB?, comment MPZ1608S101ATAH0
Ferrite Beads 100ohms 3A 30mOhms 0603 Ferrite Chip; Manufacturer: TDK; Mnaufacturer Part Number: MPZ1608S101ATAH0; Case/Package: 0603; Supplier-1: Digikey
footprint RES_0603 (CASE: 0603)
pins: 1, 2

## FB_120R-1.3A-100Mhz-0402
designator FB?, comment BLM15PD121SN1D
120 Ohms @ 100MHz 1 Power Line Ferrite Bead 0402 (1005 Metric) 1.3A 90mOhm; Manufacturer: Murata Electronics; Mnaufacturer Part Number: BLM15PD121SN1D; Case/Package: 0402; Supplier-1: Digikey
footprint RES_0402
pins: 1, 2

## Fiducials
designator FD?, comment Fiducial
78.7 or 50 mil Fiducials SMD; Manufacturer: NA; Manufacturer Part Number: NA; Case/Package: SMD; Supplier-1: NA; Supplier Part Number-1: NA; Alternate Part Number-1: NA; Category: Fiducial; Number of Pins: 1
footprint FIDUCIAL_50MIL (30mil Fiducial)
pins: 1

## FUSE_1A-6V-0603
designator F?, comment SMD0603-050
6V 1A 0603 PTC Resettable Fuses RoHS; Manufacturer: TECHFUSE; Manufacturer Part Number: SMD0603-050; Case/Package: 0603; Supplier-1: LCSC
footprint RES_0603 (CASE: 0603)
pins: 1, 2

## FUSE_3A-32V-1206
designator F?, comment 3413.0121.24
3A 32V AC 63V DC Fuse Board Mount (Cartridge Style Excluded) Surface Mount 1206 (3216 Metric); Manufacturer: Schurter Inc.; Manufacturer Part Number: 3413.0121.24; Case/Package: 1206; Supplier-1: Digikey
footprint RES_1206 (CASE: 1206)
pins: 1, 2

## IC_ALC5651
designator U?, comment ALC5651
Ultra-Low Power Two-Channel Audio CODEC / with SounzRealTM Digital Sound Effect / for Mobile Devices; Manufacturer: Realtek; Manufacturer Part Number: ALC5651; Case/Package: PQFA-45; Supplier-1: NA
footprint QFN40_15.7_227X227_SMD (QFN Package)
pins: 1 MICVDD, 2 MICBIAS1, 3 JD1, 4 IN1P/DMIC_DAT, 5 IN2P, 6 IN2N/JD2, 7 IN3P, 8 DACREF, 9 AVDD, 10 AGND, 11 VREF, 12 LOUTL/P, 13 LOUTR/N, 14 CPN2, 15 CPP2, 16 CPN1, 17 CPP1, 18 CPVDD, 19 CPVPP, 20 CPVREF, 21 HPO_R, 22 CPVEE, 23 HPO_L, 24 PDM_SDA, 25 PDM_SCL, 26 ADCDAT2, 27 DACDAT2, 28 LRCK2, 29 BCLK2, 30 ADCDAT1, 31 DACDAT1, 32 LRCK1, 33 BCLK1, 34 MCLK, 35 SCL, 36 SDA, 37 GPIO1/IRQ1, 38 GPIO2/DMIC_SCL, 39 DBVDD, 40 DCVDD, 41 PAD

## IC_AP6356S
designator U?, comment AP6356S
AMPAK Technology would like to announce a low-cost and low-power consumption module / which has all of the WiFi and Bluetooth functionalities.; Manufacturer: Rockchip; Manufacturer Part Number: AP6356S; Case/Package: NA; Supplier-1: Rockchip
footprint QFN127P600-8N (QFN Package)
pins: 1 GND, 2 WL/BT_ANT0 , 3 GND, 4 GND, 5 GND, 6 GND, 7 GND, 8 GND, 9 WL_ANT1, 10 GND, 11 GND, 12 PCIE_PERST, 13 XTAL_OUT, 14 XTAL_IN, 15 WL_REG_ON, 16 WL_HOST_WAKE, 17 SDIO_DATA_CMD, 18 SDIO_DATA_CLK, 19 SDIO_DATA_3, 20 SDIO_DATA_2, 21 SDIO_DATA_0, 22 SDIO_DATA_1, 23 GND, 24 PCIE_PME_L, 25 VIN_LDO, 26 VIN_LDO_OUT, 27 PCM_SYNC, 28 PCM_IN, 29 PCM_OUT, 30 PCM_CLK, 31 LPO, 32 GND, 33 PCIE_REFCLK_N, 34 VDDIO, 35 PCIE_REFCLK_P, 36 VBAT, 37 PCIE_CLKREQ_L, 38 BT_REG_ON, 39 GND, 40 UART_TXD, 41 UART_RXD, 42 UART_RTS_N, 43 UART_CTS_N, 44 PCIE_RDN, 45 PCIE_RDP, 46 PCIE_TDN, 47 PCIE_TDP, 48 GPIO8_9, 49 BT_WAKE, 50 BT_HOST_WAKE

## IC_FUSB302MPX
designator U?, comment FUSB302MPX
USB Controller USB 3.1 USB Interface 14-MLP (2.5x2.5); Manufacturer: ON Semiconductor; Manufacturer Part Number: FUSB302MPX; Case/Package: 14-MLP; Supplier-1: Digikey
footprint MLP-14_98.4X98.4_SMD (MLP Package)
pins: 1 CC2_1, 2 VBUS, 3 NC1, 4 VDD, 5 INT, 6 SCL, 7 SDA, 8 NC2, 9 GND, 10 CC1_10, 11 CC1_11, 12 VCONN_12, 13 VCONN_13, 14 CC2_14, 15 ePAD

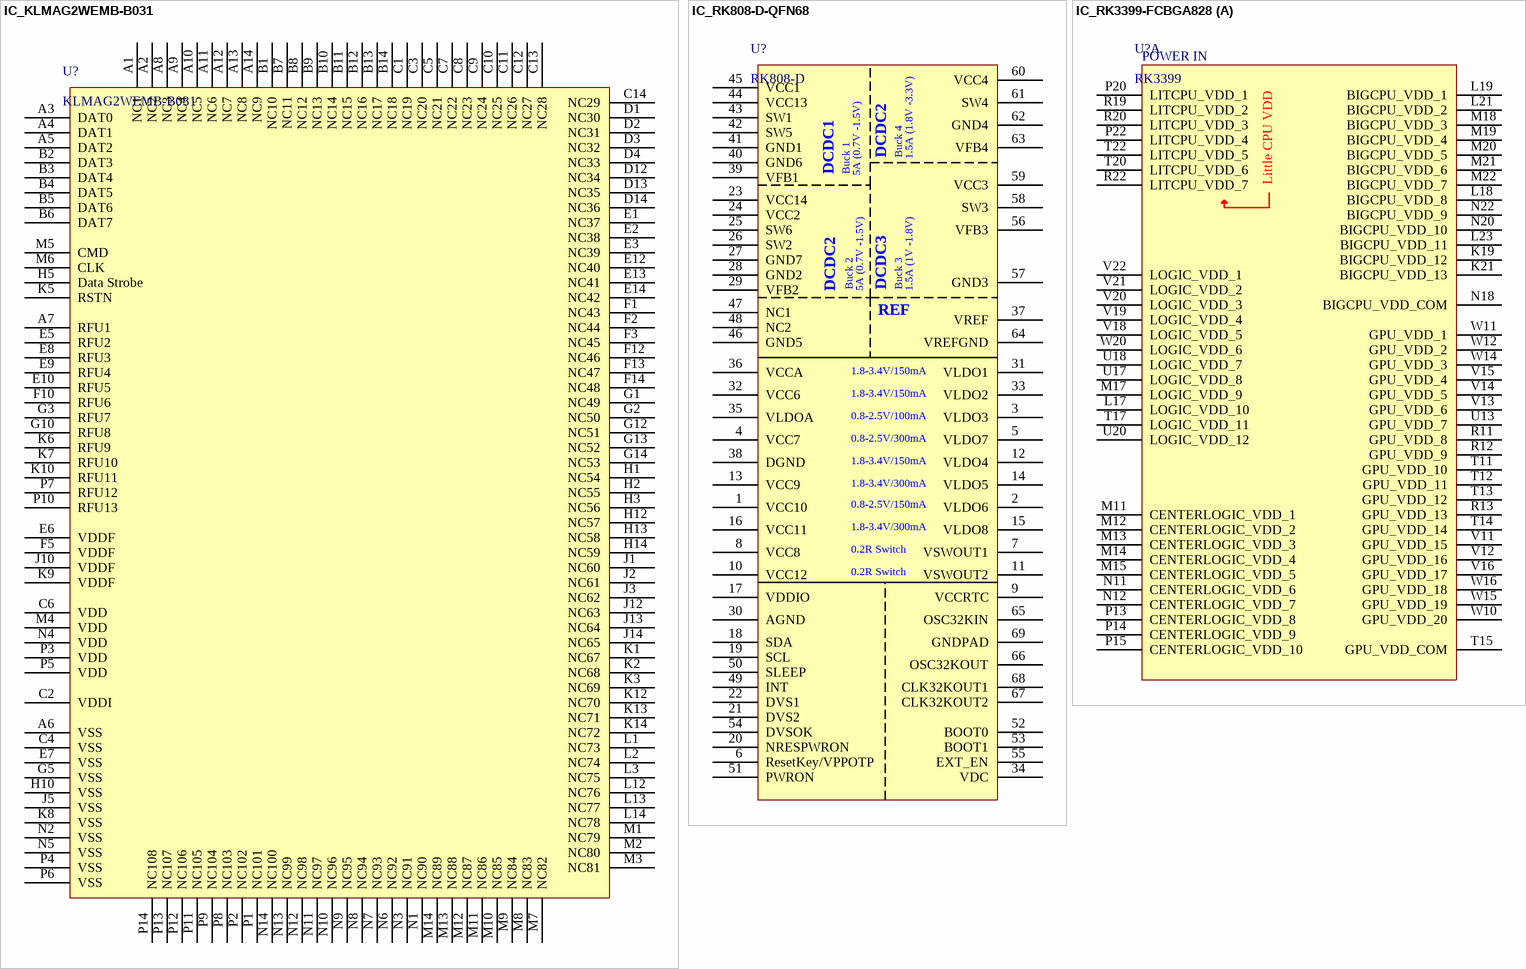
[diagram p3: symbols IC_KLMAG2WEMB-B031 to IC_RK3399-FCBGA828]

## IC_KLMAG2WEMB-B031
designator U?, comment KLMAG2WEMB-B031
16GB NAND Flash Memory; Manufacturer: Samsung Electronics; Manufacturer Part Number: KLMAG2WEMB-B031; Case/Package: 153-FBGA; Supplier-1: NA
footprint BGA153C50P14X14_1150X1300X70 (BGA, 153-Leads, Body 11.50x13.00mmx0.70mm, Pitch 0.50mm)
pins: A1 NC1, A2 NC2, A3 DAT0, A4 DAT1, A5 DAT2, A6 VSS, A7 RFU1, A8 NC3, A9 NC4, A10 NC5, A11 NC6, A12 NC7, A13 NC8, A14 NC9, B1 NC10, B2 DAT3, B3 DAT4, B4 DAT5, B5 DAT6, B6 DAT7, B7 NC11, B8 NC12, B9 NC13, B10 NC14, B11 NC15, B12 NC16, B13 NC17, B14 NC18, C1 NC19, C2 VDDI, C3 NC20, C4 VSS, C5 NC21, C6 VDD, C7 NC22, C8 NC23, C9 NC24, C10 NC25, C11 NC26, C12 NC27, C13 NC28, C14 NC29, D1 NC30, D2 NC31, D3 NC32, D4 NC33, D12 NC34, D13 NC35, D14 NC36, E1 NC37, E2 NC38, E3 NC39, E5 RFU2, E6 VDDF, E7 VSS, E8 RFU3, E9 RFU4, E10 RFU5, E12 NC40, E13 NC41, E14 NC42, F1 NC43, F2 NC44, F3 NC45, F5 VDDF, F10 RFU6, F12 NC46, F13 NC47, F14 NC48, G1 NC49, G2 NC50, G3 RFU7, G5 VSS, G10 RFU8, G12 NC51, G13 NC52, G14 NC53, H1 NC54, H2 NC55, H3 NC56, H5 Data Strobe, H10 VSS, H12 NC57, H13 NC58, H14 NC59, J1 NC60, J2 NC61, J3 NC62, J5 VSS, J10 VDDF, J12 NC63, J13 NC64, J14 NC65, K1 NC67, K2 NC68, K3 NC69, K5 RSTN, K6 RFU9, K7 RFU10, K8 VSS, K9 VDDF, K10 RFU11, K12 NC70, K13 NC71, K14 NC72, L1 NC73, L2 NC74, L3 NC75, L12 NC76, L13 NC77, L14 NC78, M1 NC79, M2 NC80, M3 NC81, M4 VDD, M5 CMD, M6 CLK, M7 NC82, M8 NC83, M9 NC84, M10 NC85, M11 NC86, M12 NC87, M13 NC88, M14 NC89, N1 NC90, N2 VSS, N3 NC91, N4 VDD, N5 VSS, N6 NC92, N7 NC93, N8 NC94, N9 NC95, N10 NC96, N11 NC97, N12 NC98, N13 NC99, N14 NC100, P1 NC101, P2 NC102, P3 VDD, P4 VSS, P5 VDD, P6 VSS, P7 RFU12, P8 NC103, P9 NC104, P10 RFU13, P11 NC105, P12 NC106, P13 NC107, P14 NC108

## IC_RK808-D-QFN68
designator U?, comment RK808-D
The RK808 is a complete power supply solution for Portable systems.; Manufacturer: Rockchip; Manufacturer Part Number: RK808-D; Case/Package: QFN68; Supplier-1: Rockchip
footprint QFN68_13.7_220.4X220.4_SMD (QFN Package)
pins: 1 VCC10, 2 VLDO6, 3 VLDO3, 4 VCC7, 5 VLDO7, 6 ResetKey/VPPOTP, 7 VSWOUT1, 8 VCC8, 9 VCCRTC, 10 VCC12, 11 VSWOUT2, 12 VLDO4, 13 VCC9, 14 VLDO5, 15 VLDO8, 16 VCC11, 17 VDDIO, 18 SDA, 19 SCL, 20 NRESPWRON, 21 DVS2, 22 DVS1, 23 VCC14, 24 VCC2, 25 SW6, 26 SW2, 27 GND7, 28 GND2, 29 VFB2, 30 AGND, 31 VLDO1, 32 VCC6, 33 VLDO2, 34 VDC, 35 VLDOA, 36 VCCA, 37 VREF, 38 DGND, 39 VFB1, 40 GND6, 41 GND1, 42 SW5, 43 SW1, 44 VCC13, 45 VCC1, 46 GND5, 47 NC1, 48 NC2, 49 INT, 50 SLEEP, 51 PWRON, 52 BOOT0, 53 BOOT1, 54 DVSOK, 55 EXT_EN, 56 VFB3, 57 GND3, 58 SW3, 59 VCC3, 60 VCC4, 61 SW4, 62 GND4, 63 VFB4, 64 VREFGND, 65 OSC32KIN, 66 OSC32KOUT, 67 CLK32KOUT2, 68 CLK32KOUT1, 69 GNDPAD
text: DCDC2; Buck 4; 1.5A (1.8V -3.3V); DCDC1; Buck 1; 5A (0.7V -1.5V); Buck 2; DCDC3; Buck 3; 1.5A (1V -1.8V); REF; 1.8-3.4V/150mA; 0.8-2.5V/100mA; 0.8-2.5V/300mA; 1.8-3.4V/300mA; 0.8-2.5V/150mA; 0.2R Switch

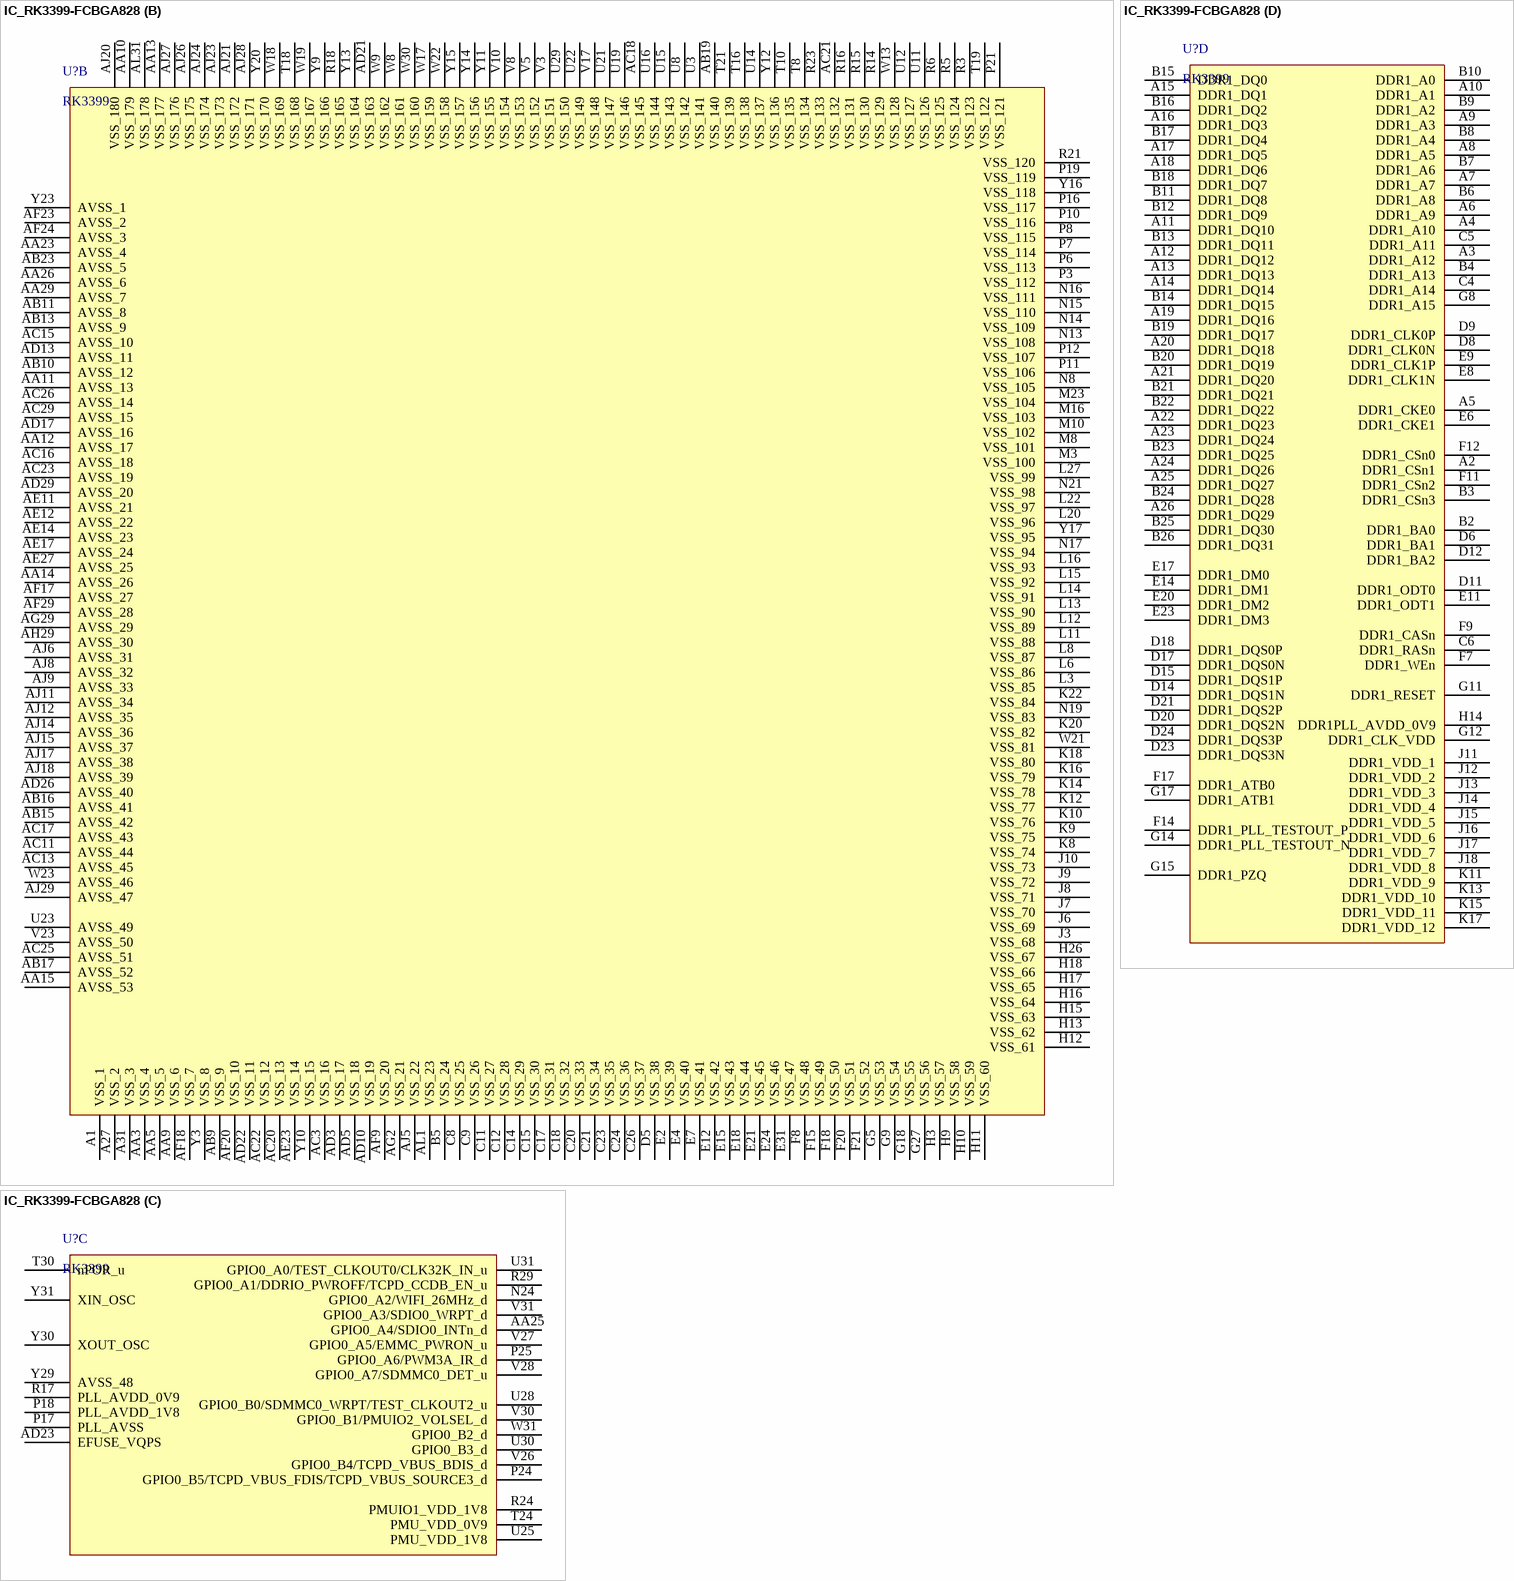
[diagram p4: symbol IC_RK3399-FCBGA828]

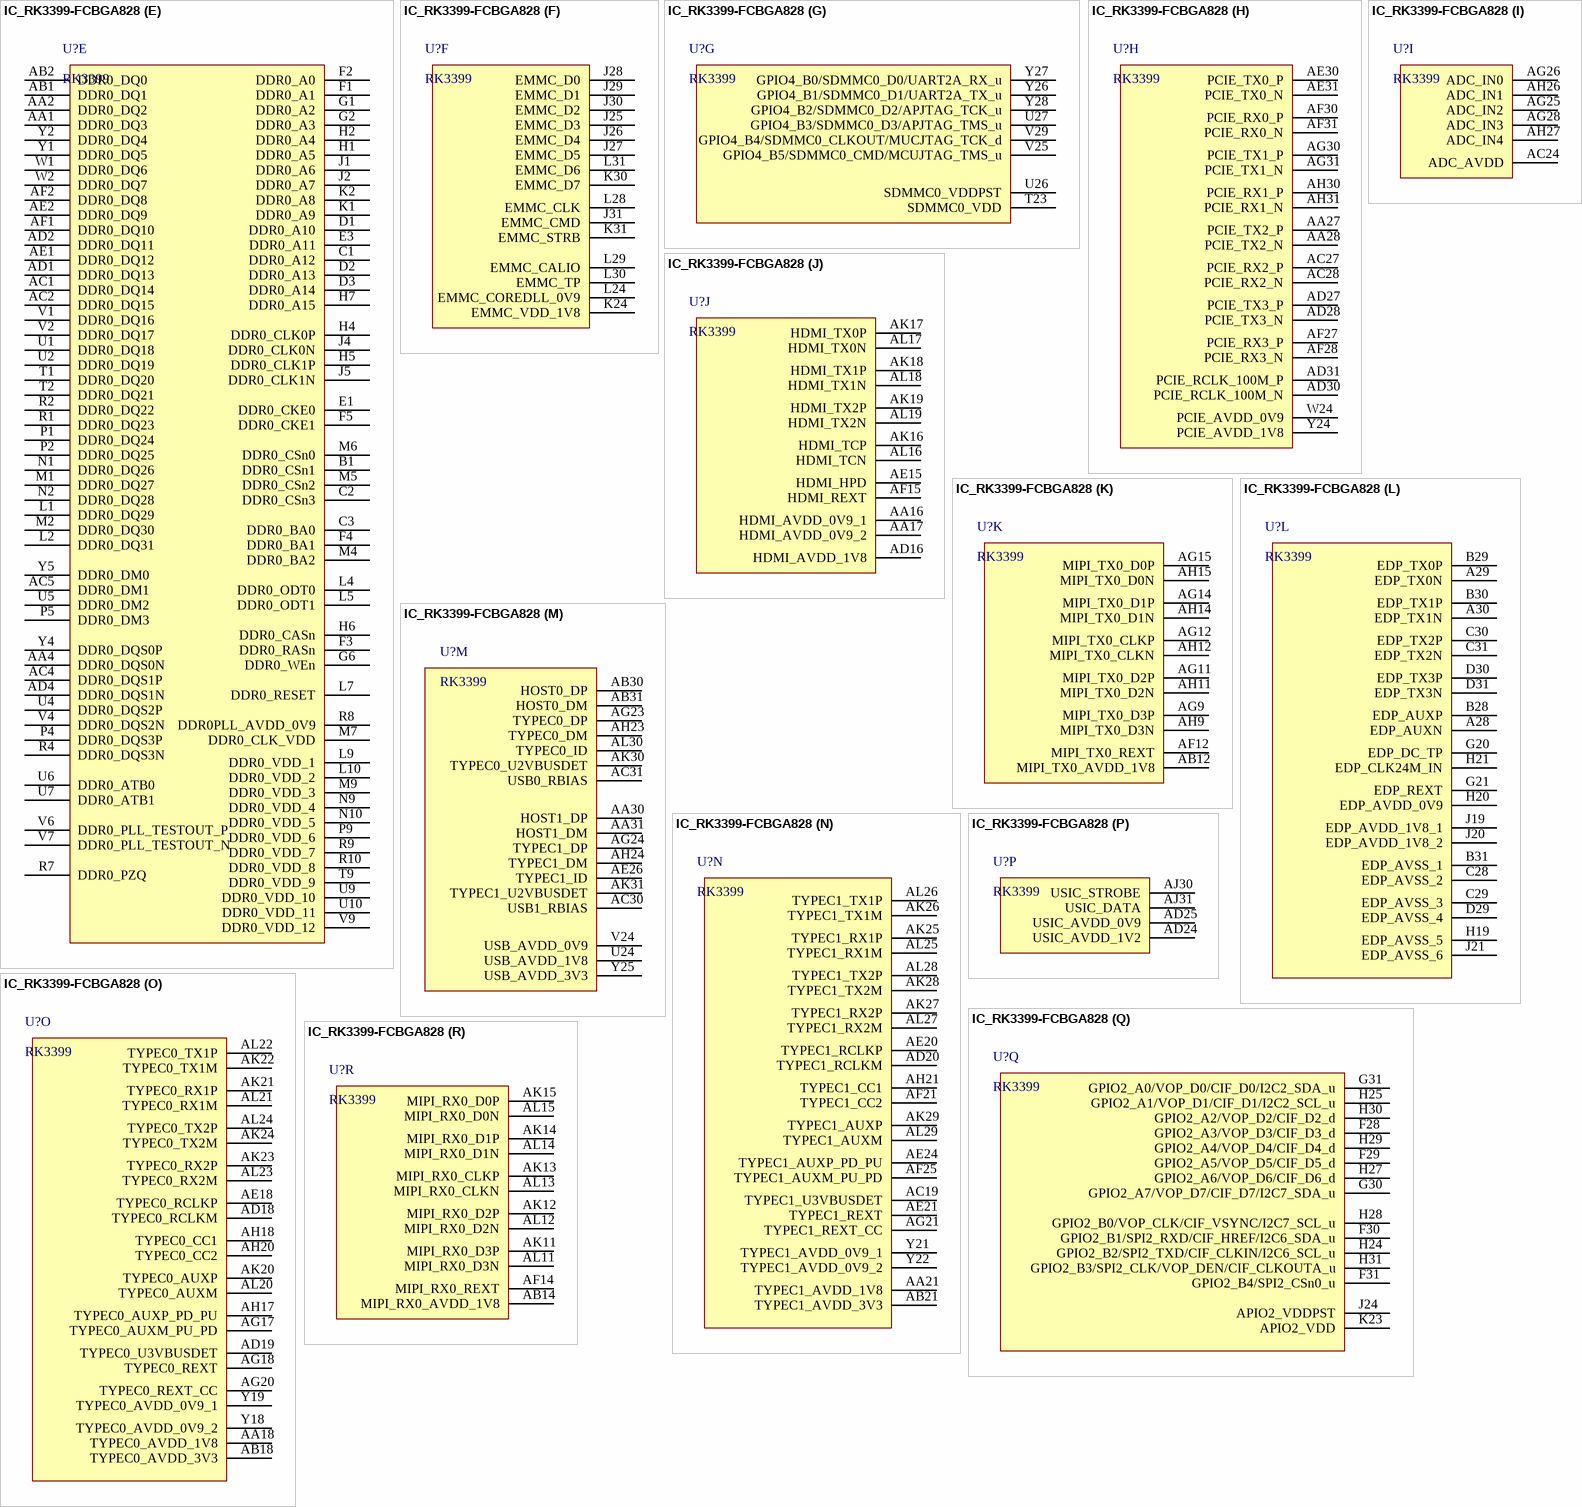
[diagram p5: symbol IC_RK3399-FCBGA828]

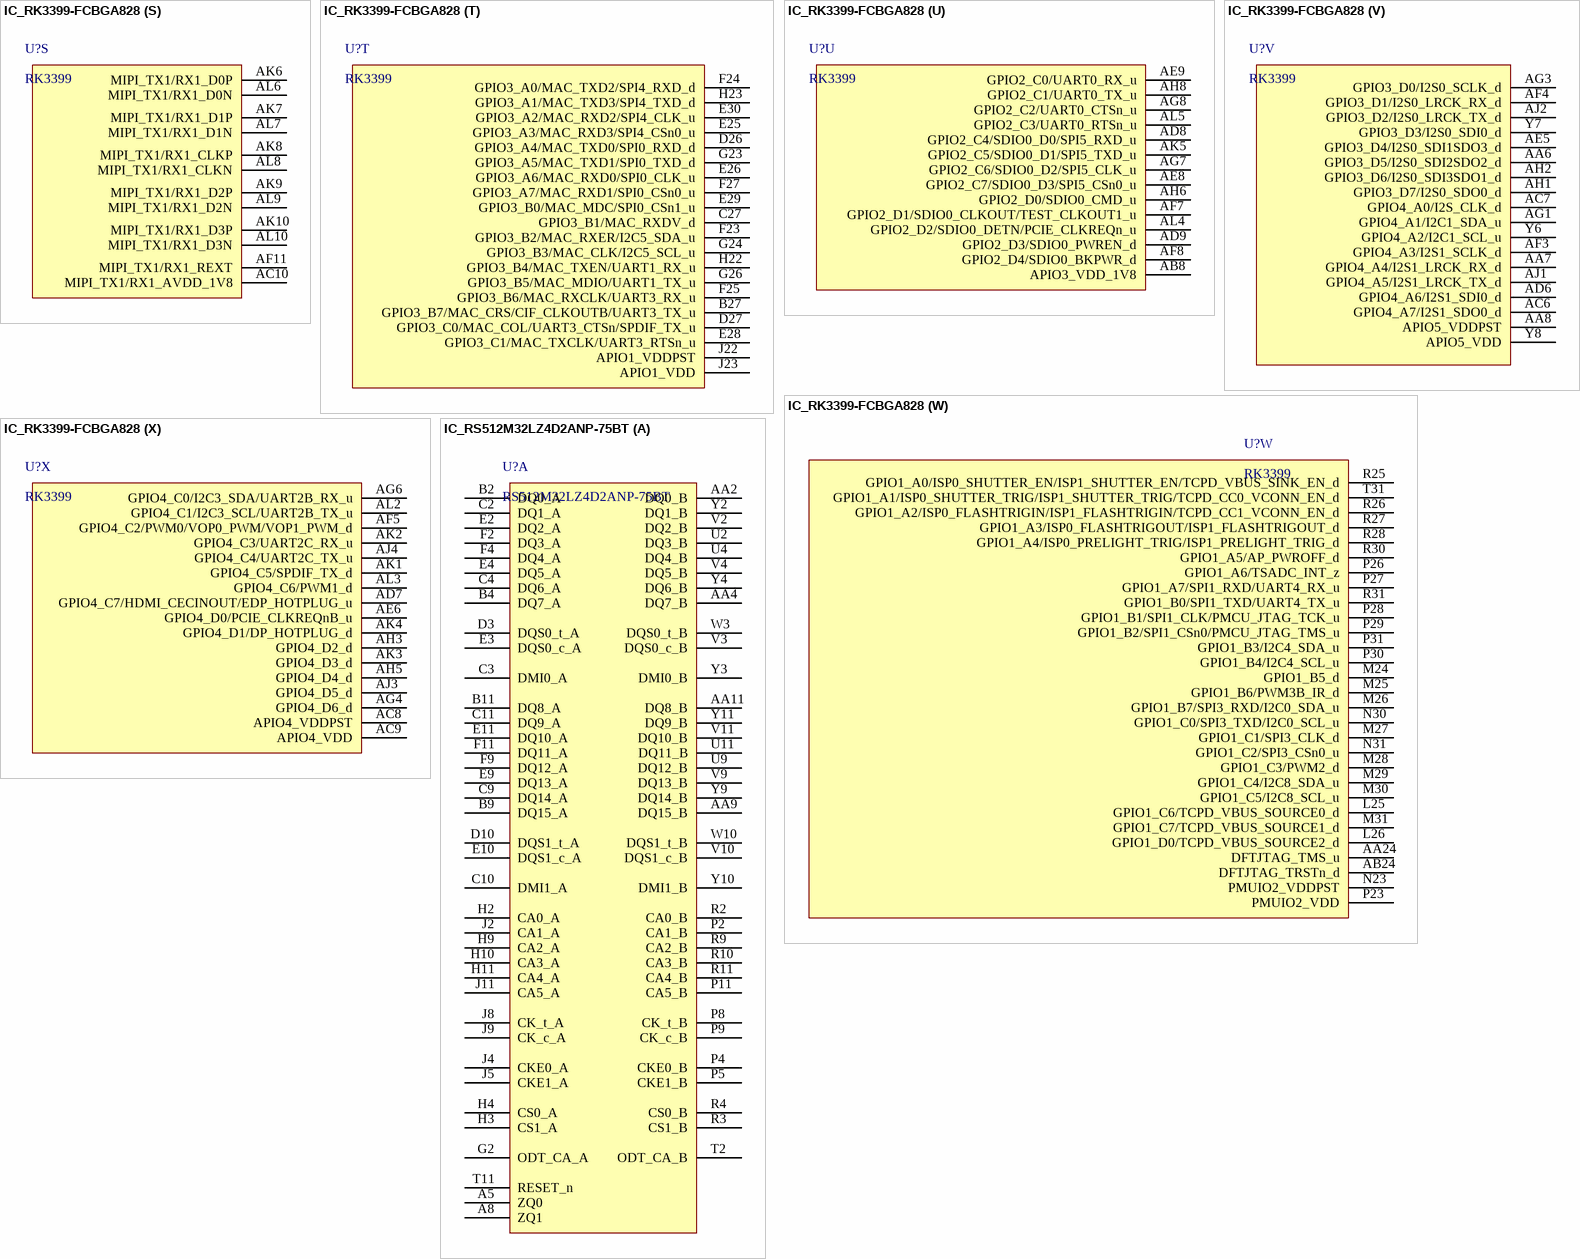
[diagram p6: symbols IC_RK3399-FCBGA828 to IC_RS512M32LZ4D2ANP-75BT]